# Altium schematic symbol library 860010672001.SchLib: 1 symbol
Pins are listed as number, name and electrical type; pins without a type are passive.

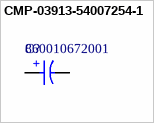
[diagram p0: symbol CMP-03913-54007254-1]

## CMP-03913-54007254-1
designator C?, comment 860010672001
860010672001 Cap Aluminum Lytic 0.1uF 50V 20% (5 X 11mm) Radial 2mm 3.3mA 2000h 85C; NexarPartId: 54007254; Capacitance: 100nF; Polarity: Polar; Material: Aluminium; Life (Hours): 2000hours; Leakage Current: 3µA; Lead Pitch: 2.0066mm; Mount: Through Hole; Diameter: 5mm; RoHS: Compliant; Max Operating Temperature: 85°C; Case/Package: Radial; Packaging: Tape & Box (TB); REACH SVHC: Unknown; Pitch: 2mm; Ripple Current: 3.3mA; Tolerance: 20%; Voltage Rating (DC): 50V; Height: 11mm; Min Operating Temperature: -40°C; Height - Seated (Max): 12.4968mm; Length: 11mm; Voltage Rating: 50V
footprint WCAP-ATG8_D5H11 (Aluminum Electrolytic Capacitors, 5x11mm)
pins: 1 P, 2 N
text: +